# Altium integrated library LSM9DS1TR.IntLib: 1 symbol
Pins are listed as number, name and electrical type; pins without a type are passive.

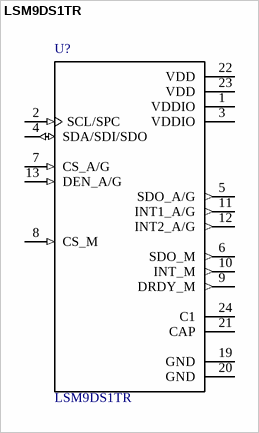
[diagram p0: symbol LSM9DS1TR]

## LSM9DS1TR
designator U?
Accelerometer, Gyroscope, Magnetometer, Temperature, 9 Axis Sensor IÂ²C, SPI Output; MF: STMicroelectronics; MP: LSM9DS1TR; SnapEDA_Link: https://www.snapeda.com/parts/LSM9DS1TR/STMicroelectronics/view-part/106273/?ref=snap; Digi-Key_Purchase_URL: https://www.digikey.ca/product-detail/en/stmicroelectronics/LSM9DS1TR/497-14946-1-ND/4988079?utm_source=snapeda&utm_medium=aggregator&utm_campaign=symbol; Package: TFLGA-24 STMicroelectronics; Digi-Key_Part_Number: 497-14946-1-ND; Value: *
footprint *PQFN43P300X350X102-24N
pins: 1 VDDIO (power), 2 SCL/SPC (in), 3 VDDIO (power), 4 SDA/SDI/SDO (io), 5 SDO_A/G (out), 6 SDO_M (out), 7 CS_A/G (in), 8 CS_M (in), 9 DRDY_M (out), 10 INT_M (out), 11 INT1_A/G (out), 12 INT2_A/G (out), 13 DEN_A/G (in), 19 GND (power), 20 GND (power), 21 CAP, 22 VDD (power), 23 VDD (power), 24 C1